# Altium footprint library SH6918F500BHEP.PcbLib: 1 footprints
Each footprint in its own frame and in the unit in brackets; x right, y up, seen from the top. Pads: shape width x height; smd on the part's side, far side on the other; paste and mask are expansions set on the pad; w line width, h text height; cw(c..) or ccw(c..) is an arc to the next point about the centre after c.
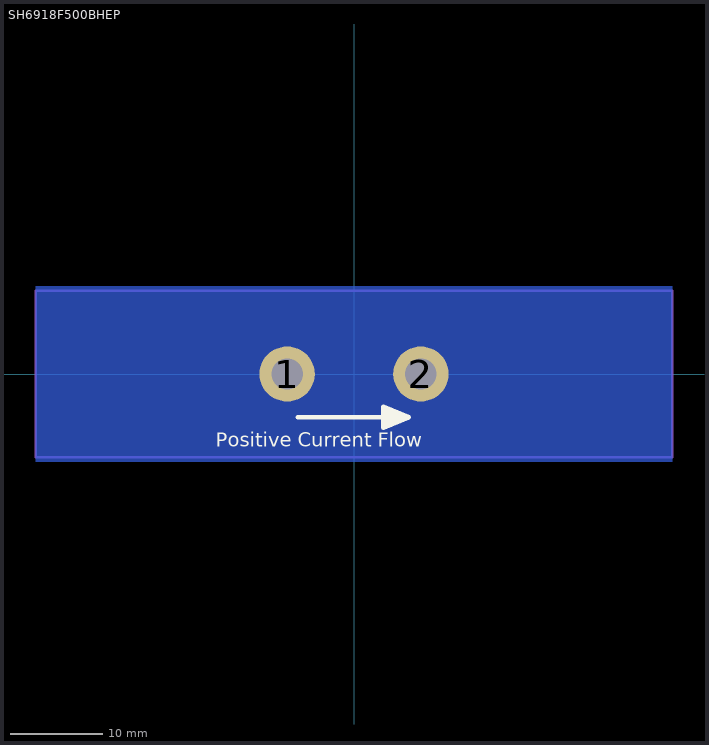
[diagram p0: the footprint, top view; thin cyan lines are the x and y axes]

## SH6918F500BHEP [mm] "Shunt 500A 0.0001ohm 25W"
pads (2):
  round 6 hole 3.4: 1(-7.25,0) 2(7.25,0)
Bottom Layer:
  pour cut-out: -34.5,9.5 -34.5,-9.5 34.5,-9.5 34.5,9.5
Top Overlay:
  lines w0.5: -6.096,-4.699 3.175,-4.699 ; 3.175,-5.334 3.698,-5.551 ; 3.175,-4.953 4.222,-5.386 ; 3.175,-4.445 4.854,-5.14 ; 3.175,-4.064 5.287,-4.939 ; 3.175,-5.842 5.936,-4.699 3.175,-3.556 3.175,-5.842
  text "Positive Current Flow" at -14.986,-7.874 h1.52
Mechanical 1:
  lines w0.254: -34.5,-9.017 -34.5,9.017 34.5,9.017 34.5,-9.017 -34.5,-9.017
3D body "SH6918F500BHEP.step": height -1.6, standoff -4.6, extent -34.5,-9 34.5,9